# Altium footprint library other.pcblib: 22 footprints (part 1 of 2)
Each footprint in its own frame and in the unit in brackets; x right, y up, seen from the top. Pads: shape width x height; smd on the part's side, far side on the other; paste and mask are expansions set on the pad; w line width, h text height; cw(c..) or ccw(c..) is an arc to the next point about the centre after c.
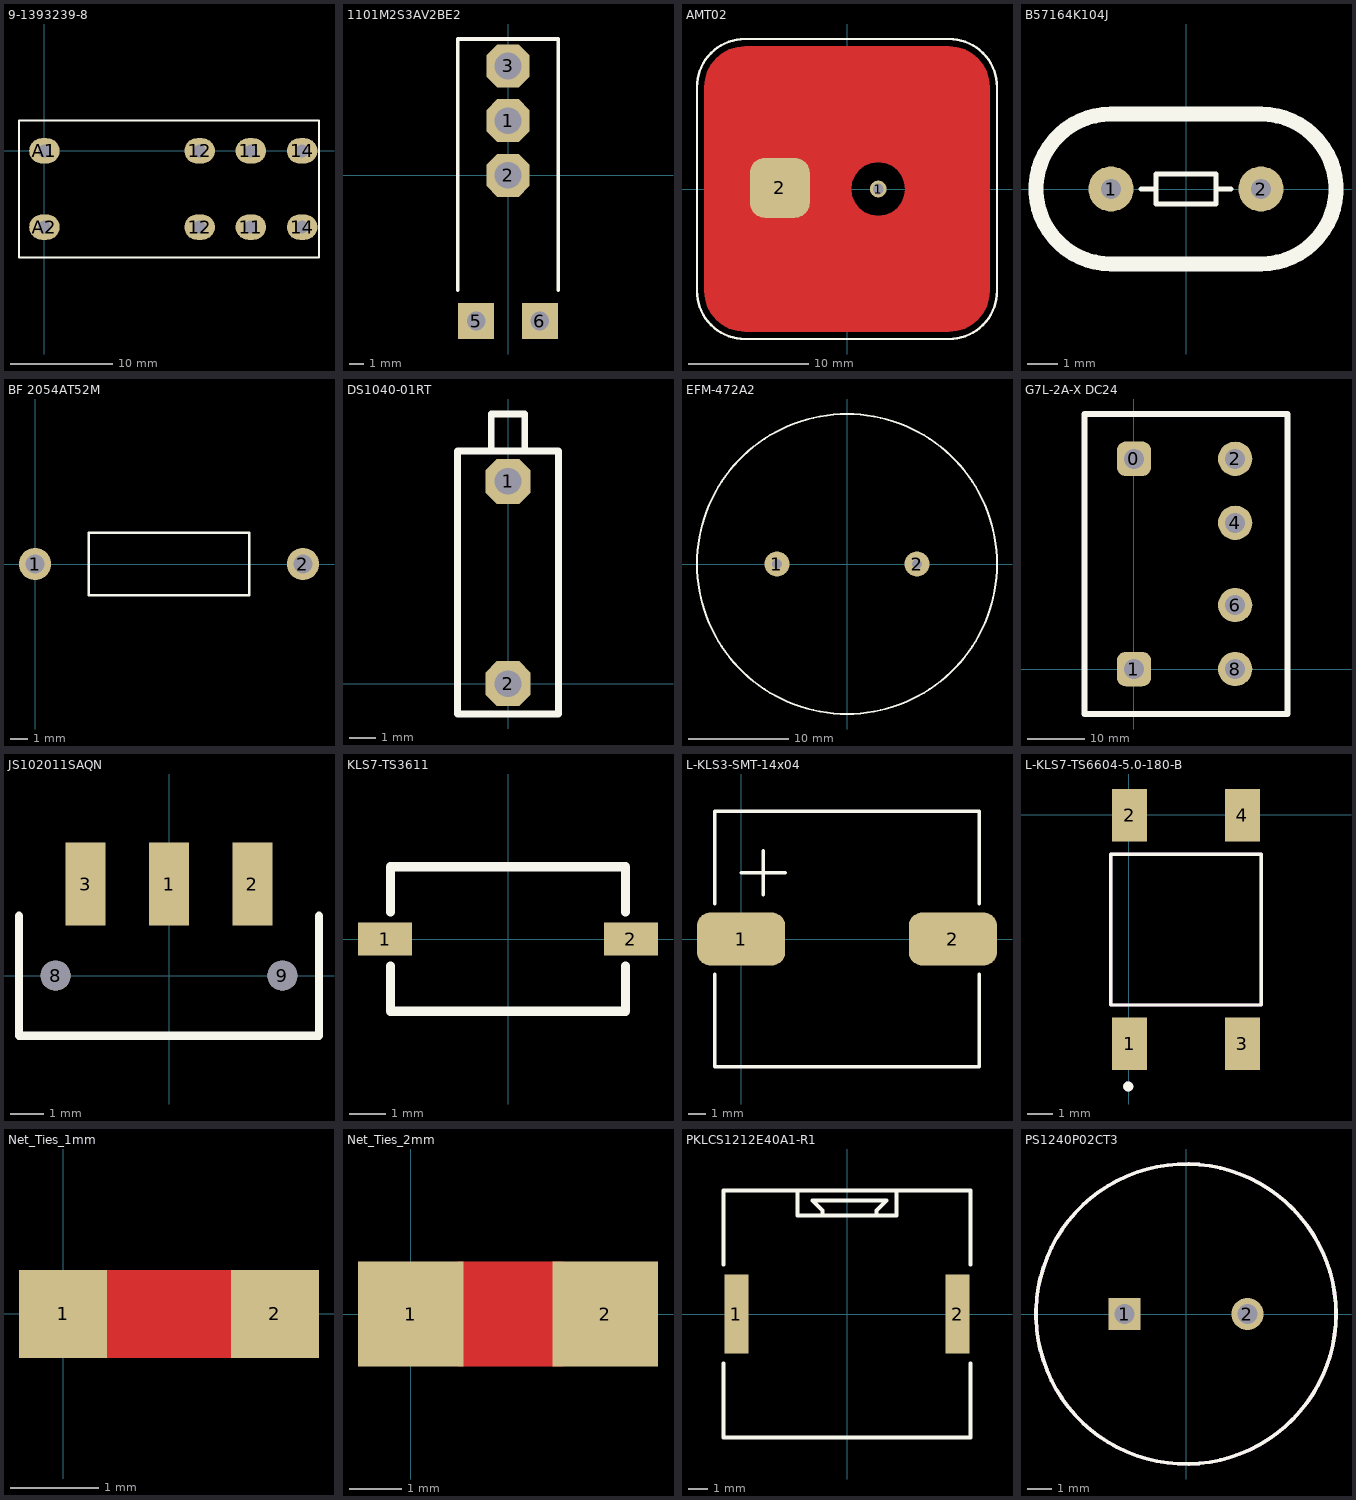
[diagram p0: the footprints below, top view; thin cyan lines are the x and y axes]

## 9-1393239-8 [mm]
pads (8):
  oval 3x2.5 hole 1.3: 11(20.3,-7.5) 11(20.3,0) 12(15.26,-7.5) 12(15.26,0) 14(25.34,-7.5) 14(25.34,0) A1(0,0) A2(0,-7.5)
Top Overlay:
  lines w0.18: -2.5,-10.5 27,-10.5 27,3 -2.5,3 -2.5,-10.5
3D body "c-9-1393239-8-c-3d.stp": height 15.7, standoff -3.6, extent -2.4,-9.95 26.6,2.75

## 1101M2S3AV2BE2 [mm]
pads (5):
  oct 3x3 hole 1.86 unplated mask+0.05: 1(0,3.81) 2(0,0) 3(0,7.62)
  rect 2.5x2.5 hole 1.3 unplated mask+0.05: 5(-2.225,-10.16) 6(2.225,-10.16)
Top Overlay:
  lines w0.254: -3.5,-8 -3.5,9.5 3.5,9.5 3.5,-8
3D body "1101M2S3AV2BE2.step": height 12.75, standoff -2.64, extent -3.404,-15.306 3.505,8.138

## AMT02 [mm]
height 0.001
pads (2):
  round 1.4 hole 0.9: 1(2.6,0)
  rrect50% 5x5 smd: 2(-5.6,0.1)
Top Layer:
  region: 9.162,11.826 9.798,11.633 10.384,11.319 10.898,10.898 11.319,10.384 11.633,9.798 11.826,9.162 11.89,8.509 11.888,8.5 11.888,-8.5 11.89,-8.509 11.826,-9.162 11.633,-9.798 11.319,-10.384 10.898,-10.898 10.384,-11.319 9.798,-11.633 9.162,-11.826 8.509,-11.89 8.5,-11.888 -8.5,-11.888 -8.509,-11.89 -9.162,-11.826 -9.798,-11.633 -10.384,-11.319 -10.898,-10.898 -11.319,-10.384 -11.633,-9.798 -11.826,-9.162 -11.89,-8.509 -11.888,-8.5 -11.888,8.5 -11.89,8.509 -11.826,9.162 -11.633,9.798 -11.319,10.384 -10.898,10.898 -10.384,11.319 -9.798,11.633 -9.162,11.826 -8.509,11.89 -8.5,11.888 8.5,11.888 8.509,11.89 hole: 2.6,2.219 2.026,2.143 1.491,1.922 1.031,1.569 0.678,1.109 0.457,0.574 0.381,0 0.457,-0.574 0.678,-1.109 1.031,-1.569 1.491,-1.922 2.026,-2.143 2.6,-2.219 3.174,-2.143 3.709,-1.922 4.169,-1.569 4.522,-1.109 4.743,-0.574 4.819,0 4.743,0.574 4.522,1.109 4.169,1.569 3.709,1.922 3.174,2.143
Top Overlay:
  lines w0.2: -12.5,-8.5 ccw(c-8.5,-8.5) -8.5,-12.5 8.5,-12.5 ccw(c8.5,-8.5) 12.5,-8.5 12.5,8.5 ccw(c8.5,8.5) 8.5,12.5 -8.5,12.5 ccw(c-8.5,8.5) -12.5,8.5 -12.5,-8.5
3D body "GPS_ant.step": height 5, standoff -3, extent -12.5,-12.5 12.5,12.5

## B57164K104J [mm]
pads (2):
  round 1.5 hole 0.65 paste-2539.97 mask+0: 1(-2.5,0) 2(2.5,0)
Top Overlay:
  lines w0.18: -1.5,0 -1,0 ; 1.5,0 1,0 ; -1,0 -1,-0.5 1,-0.5 1,0 ; -1,0 -1,0.5 1,0.5 1,0
  lines w0.5: -2.5,-2.5 cw(c-2.5,0) -2.5,2.5 2.5,2.5 cw(c2.5,0) 2.5,-2.5 -2.5,-2.5
3D body "User Library-B57861S.step": height 1, standoff -48.5, extent -2.75,-1.205 2.864,1.205

## BF 2054AT52M [mm] "EMP Filter"
pads (2):
  round 1.8 hole 1.05: 1(0,0) 2(15,0)
Top Overlay:
  lines w0.127: 3,-1.75 12,-1.75 12,1.75 3,1.75 3,-1.75
3D body "BF 2054AT52M.stp": height 4.75, standoff -5.29, extent -0.3,-1.75 15.3,1.75

## DS1040-01RT [mm] "DIP Switch"
pads (2):
  oct 1.7x1.7 hole 1 unplated mask+0.05: 1(0,7.62) 2(0,0)
Top Overlay:
  lines w0.254: -0.635,8.89 -0.635,10.16 0.635,10.16 0.635,8.89 ; -1.905,-1.143 1.905,-1.143 1.905,8.763 -1.905,8.763 -1.905,-1.143
3D body "User Library-DS1040-01RT.STEP": height 8.05, standoff -4.25, extent -2,-1.14 2,10.56

## EFM-472A2 [mm]
pads (2):
  round 2.5 hole 1: 1(-7,0) 2(7,0)
Top Overlay:
  circle w0.2: c0,0 r15
3D body "buzzer.stp": height 19.6, standoff -9, extent -15,-15 15,15

## G7L-2A-X DC24 [mm]
pads (6):
  rrect50% 6x6 hole 3.5: 0(0,36.815) 1(0,0)
  round 6 hole 3.5: 2(17.7,36.815) 4(17.7,25.615) 6(17.7,11.215) 8(17.7,0.015)
Top Overlay:
  lines w1: -8.65,-7.85 26.85,-7.85 26.85,44.65 -8.65,44.65 -8.65,-7.85
3D body "G7L_2A_X.stp": height 41.2, standoff -5.8, extent -8.65,-7.85 26.85,44.65

## JS102011SAQN [mm] "SMT Slide Switches"
pads (5):
  rect 1.2x2.5 smd: 1(0,2.75) 2(2.5,2.75) 3(-2.5,2.75)
  round 0.9 hole 0.9 unplated: 8(-3.4,0) 9(3.4,0)
Top Overlay:
  lines w0.254: -4.5,1.8 -4.5,-1.8 0,-1.8 4.5,-1.8 4.5,1.8

## KLS7-TS3611 [mm]
pads (2):
  rect 1.5x0.9 smd mask+0: 1(-3.4,0) 2(3.4,0)
Top Overlay:
  lines w0.254: -3.25,-0.75 -3.25,-2 3.25,-2 3.25,-0.75 ; -3.25,0.75 -3.25,2 3.25,2 3.25,0.75

## L-KLS3-SMT-14x04 [mm]
pads (2):
  rrect50% 5x3 smd: 1(0,0) 2(12,0)
Top Overlay:
  lines w0.2: -1.5,-2 -1.5,-7.25 13.5,-7.25 13.5,-2 ; -1.5,2 -1.5,7.25 13.5,7.25 13.5,2 ; 0,3.75 2.5,3.75 ; 1.25,2.5 1.25,5
3D body "L-KLS3-SMT-14x04.stp": height 4.31, standoff 0.01, extent -1.25,-7.1 13.25,7

## L-KLS7-TS6604-5.0-180-B [mm]
pads (4):
  rect 1.4x2.1 smd: 1(0.036,-9.125) 2(0.036,-0.025) 3(4.536,-9.125) 4(4.536,-0.025)
Top Overlay:
  circle w0.2: c-0.014,-10.825 r0.1
  lines w0.127: -0.714,-7.575 5.286,-7.575 5.286,-1.575 -0.714,-1.575 -0.714,-7.575
Plata3D:
  circle w0.2: c-0.014,-10.825 r0.1
  lines w0.127: -0.714,-7.575 -0.714,-1.575 5.286,-1.575 5.286,-7.575 -0.714,-7.575
3D body "4-1437565-1.stp": height 5.03, standoff -0.04, extent -0.838,-9.675 5.161,0.325

## Net_Ties_1mm [mm]
pads (2):
  rect 1x1 smd paste+0 mask+0.102: 1(0,0) 2(2.4,0)
Top Layer:
  rectangle: 0.4,-0.5 2,0.5

## Net_Ties_2mm [mm]
pads (2):
  rect 2x2 smd paste+0 mask+0.102: 1(0,0) 2(3.7,0)
Top Layer:
  rectangle: 0.9,-1 2.9,1

## PKLCS1212E40A1-R1 [mm] "Piezoelectric Sounders SMD Type"
pads (2):
  rect 1.2x4 smd: 1(-5.6,0) 2(5.6,0)
Top Overlay:
  lines w0.2: -6.25,-2.5 -6.25,-6.25 6.25,-6.25 6.25,-2.5 ; -6.25,2.5 -6.25,6.25 6.25,6.25 6.25,2.5 ; -2.5,6.25 -2.5,5 2.5,5 2.5,6.25 ; -1.25,5 -1.25,5.25 -1.75,5.75 1.75,5.75 2,5.75 1.5,5.25 1.5,5
3D body "User Library-PKLCS1212E2XXX.STEP": height 3, standoff 0, extent -6,-6 6,6

## PS1240P02CT3 [mm] "Piezoelectric Sounders"
pads (2):
  rect 1.3x1.3 hole 0.8 paste-2539.97 mask+0: 1(-2.5,0)
  round 1.3 hole 0.8 paste-2539.97 mask+0: 2(2.5,0)
Top Overlay:
  circle w0.15: c0,0 r6.1
Mechanical 12:
  circle w0.15: c0,0 r6.1
3D body "User Library-PS1240P02BT-1.STEP": height 6.54, standoff -14.96, extent -5.9,-6.1 6.3,6.1